# Altium footprint library ADW1203HLW.PcbLib: 1 footprints
Each footprint in its own frame and in the unit in brackets; x right, y up, seen from the top. Pads: shape width x height; smd on the part's side, far side on the other; paste and mask are expansions set on the pad; w line width, h text height; cw(c..) or ccw(c..) is an arc to the next point about the centre after c.
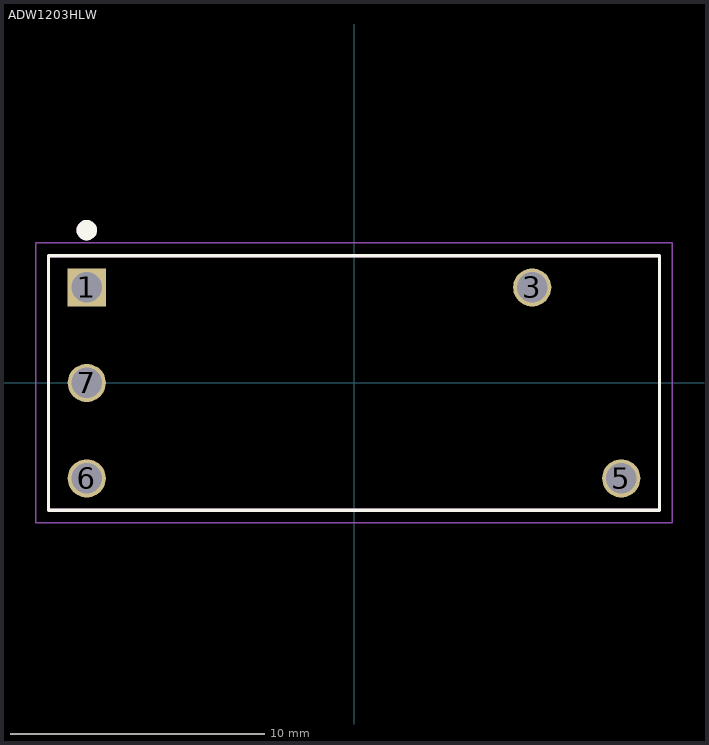
[diagram p0: the footprint, top view; thin cyan lines are the x and y axes]

## ADW1203HLW [mm]
height 15.8
pads (5):
  rect 1.5x1.5 hole 1.2: 1(-10.5,3.75)
  round 1.5 hole 1.2: 3(7,3.75) 5(10.5,-3.75) 6(-10.5,-3.75) 7(-10.5,0)
Top Overlay:
  circle w0.4: c-10.5,6 r0.2
  lines w0.127: -12,-5 -12,5 12,5 12,-5 -12,-5
Mechanical 13:
  circle w0.4: c-10.5,6 r0.2
  lines w0.127: -12,-5 -12,5 12,5 12,-5 -12,-5
Mechanical 15:
  lines w0.05: -12.5,-5.5 -12.5,5.5 12.5,5.5 12.5,-5.5 -12.5,-5.5
3D body "ADW1203HLW.step": height 15.8, standoff -3.2, extent -12,-5 12,5